# Altium integrated library TI Audio CODEC.IntLib: 199 symbols (part 1 of 17)
Pins are listed as number, name and electrical type; pins without a type are passive.

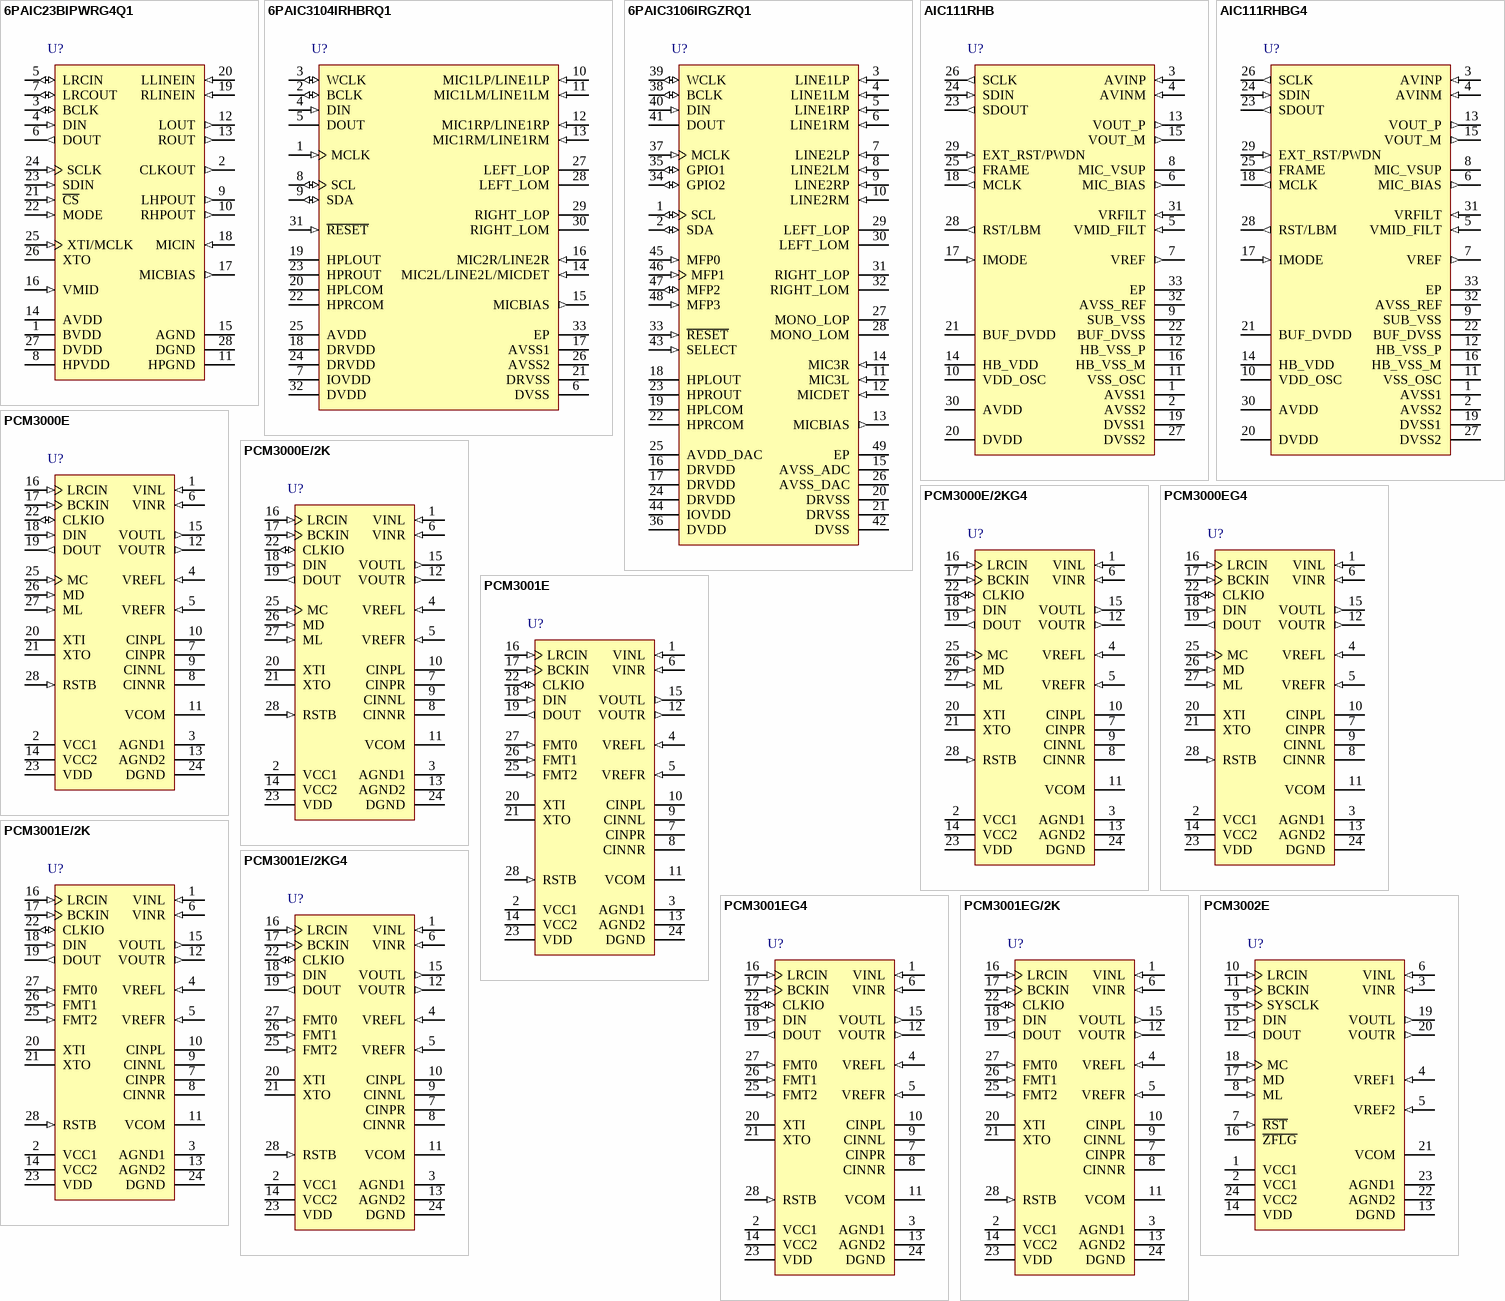
[diagram p0: symbols 6PAIC23BIPWRG4Q1 to PCM3002E]

## 6PAIC23BIPWRG4Q1
designator U?
Automotive Catalog Stereo Audio CODEC, 8 to 96 kHz, with Integrated Headphone Amp, 1 ADC and 1 DAC, 100 dB DAC SNR, -40 to 85 degC, 28-pin TSSOP (PW), Green (RoHS & no Sb/Br); Manufacturer: Texas Instruments; PartNumber: 6PAIC23BIPWRG4Q1; # ADCs (typ): 1; Battery Powered: TRUE; Control Interface: SPI, I2C; DAC SNR: 100; Digital Audio Interfaces: L, R, I2S, DSP; Sampling Rate (Max) (kHz): 96; DatasheetVersion: SGLS240C; PackageVersion: revG, Feb-2011; PackageReference: PW28; PackageDescription: 28-Pin Plastic Thin Small Outline Package 9.7 x 4.4 mm Body ,0.65 mm Pitch; Supplier 1: Digi-Key; Supplier Part Number 1: 296-24241-2-ND; Supplier 2: Digi-Key; Supplier Part Number 2: 296-24241-1-ND; Supplier 3: Digi-Key; Supplier Part Number 3: 296-24241-6-ND; Supplier 4: Mouser; Supplier Part Number 4: 595-6PAIC23BIPWRG4Q1; # DACs: 1; Headphone Driver: True; Mounting Technology: Surface Mount; Code_JEDEC: MO-153; ComponentLink1Description: Datasheet; ComponentLink1URL: http://www.ti.com/general/docs/lit/getliterature.tsp?genericPartNumber=TLV320AIC23B-Q1&fileType=pdf
footprint PW28_N (TSOP, 28-Leads, Body 9.7x4.4mm, Pitch 0.65mm, IPC Medium Density)
footprint PW28_L (TSOP, 28-Leads, Body 9.7x4.4mm, Pitch 0.65mm, IPC High Density)
footprint PW28_M (TSOP, 28-Leads, Body 9.7x4.4mm, Pitch 0.65mm, IPC Low Density)
pins: 1 BVDD (power) "Buffer supply input. Voltage range is from 2.7 V to 3.6 V.", 2 CLKOUT (out) "Clock output. This is a buffered version of the XTI input and is available in 1X or 1/2X frequencies of XTI. Bit 07 in the sample rate control register controls frequency selection.", 3 BCLK (io) "I2S serial-bit clock. In audio master mode, the AIC23B generates this signal and sends it to the DSP. In audio slave mode, the signal is generated by the DSP.", 4 DIN (in) "I2S format serial data input to the sigma-delta stereo DAC", 5 LRCIN (io) "I2S DAC-word clock signal. In audio master mode, the AIC23B generates this framing signal and sends it to the DSP. In audio slave mode, the signal is generated by the DSP.", 6 DOUT (out) "I2S format serial data output from the sigma-delta stereo ADC", 7 LRCOUT (io) "I2S ADC-word clock signal. In audio master mode, the AIC23B generates this framing signal and sends it to the DSP. In audio slave mode, the signal is generated by the DSP.", 8 HPVDD (power) "Analog headphone amplifier supply input. Voltage level is 3.3 V nominal.", 9 LHPOUT (out) "Left stereo mixer-channel amplified headphone output. Nominal 0-dB output level is 1 VRMS. Gain of -73 dB to 6 dB is provided in 1-dB steps.", 10 RHPOUT (out) "Right stereo mixer-channel amplified headphone output. Nominal 0-dB output level is 1 VRMS. Gain of -73 dB to 6 dB is provided in 1-dB steps.", 11 HPGND (power) "Analog headphone amplifier supply return", 12 LOUT (out) "Left stereo mixer-channel amplified headphone output. Nominal 0-dB output level is 1 VRMS. Gain of -73 dB to 6 dB is provided in 1-dB steps.", 13 ROUT (out) "Right stereo mixer-channel amplified headphone output. Nominal 0-dB output level is 1 VRMS. Gain of -73 dB to 6 dB is provided in 1-dB steps.", 14 AVDD (power) "Analog supply input. Voltage level is 3.3 V nominal.", 15 AGND (power) "Analog supply return", 16 VMID (in) "Midrail voltage decoupling input. 10-uF and 0.1-uF capacitors should be connected in parallel to this terminal for noise filtering. Voltage level is 1/2 AVDD nominal.", 17 MICBIAS (out) "Buffered low-noise-voltage output suitable for electret-microphone-capsule biasing. Voltage level is 3/4 AVDD nominal.", 18 MICIN (in) "Buffered amplifier input suitable for use with electret-microphone capsules. Without external resistors a default gain of 5 is provided. See Section 2.3.1.2 for details.", 19 RLINEIN (in) "Right stereo-line input channel. Nominal 0-dB input level is 1 VRMS. Gain of -34.5 dB to 12 dB is provided in 1.5-dB steps.", 20 LLINEIN (in) "Left stereo-line input channel. Nominal 0-dB input level is 1 VRMS. Gain of -34.5 dB to 12 dB is provided in 1.5-dB steps.", 21 ~{CS} (in) "Control port input latch/address select. For SPI control mode this input acts as the data latch control.For 2-wire control mode this input defines the seventh bit in the device address field. See Section 3.1 for details", 22 MODE (in) "Serial-interface-mode input. See Section 3.1 for details.", 23 SDIN (in) "Control-port serial-data input. For SPI and 2-wire control modes this is the serial-data input and also is used to select the control protocol after reset. See Section 3.1 for details.", 24 SCLK (in) "Control-port serial-data clock. For SPI and 2-wire control modes this is the serial-clock input.  See Section 3.1 for details.", 25 XTI/MCLK (in) "Crystal or external-clock input. Used for derivation of all internal clocks on the AIC23B.", 26 XTO "Crystal output. Connect to external crystal for applications where the AIC23B is the audio timing master.Not used in applications where external clock source is used.", 27 DVDD (power) "Digital supply input. Voltage range is 1.4 V to 3.6 V.", 28 DGND (power) "Digital supply return"

## 6PAIC3104IRHBRQ1
designator U?
Low-Power Stereo CODEC with 6 Inputs, 6 Outputs, HP Amp and Enhanced Digital Effect, 2 ADCs and 2 DACs, 102 dB DAC SNR, -40 to 85 degC, 32-pin QFN (RHB), Green (RoHS & no Sb/Br); Manufacturer: Texas Instruments; PartNumber: 6PAIC3104IRHBRQ1; # ADCs (typ): 2; Additional Features: LP Bypass, Notch Filtering, 3D, EQ, Matrix Mixing, PLL; Control Interface: I2C; DAC SNR: 102; Digital Audio Interfaces: L, R, I2S, DSP, TDM; Sampling Rate (Max) (kHz): 96; DatasheetVersion: SLAS715; PackageVersion: revD, Jun-2011; PackageReference: RHB32-3450X3450TP; PackageDescription: 32-Pin Plastic Quad Flat No-Lead, 5 x 5 mm Body, 0.5 mm Pitch, 3.45 x 3.45 mm Exposed Pad; Supplier 1: Digi-Key; Supplier Part Number 1: 6PAIC3104IRHBRQ1TR-ND; Supplier 2: Digi-Key; Supplier Part Number 2: 6PAIC3104IRHBRQ1CT-ND; Supplier 3: Newark; Supplier Part Number 3: 01T1052; Supplier 4: Mouser; Supplier Part Number 4: 595-6PAIC3104IRHBRQ1; # DACs: 2; Mounting Technology: Surface Mount; Code_JEDEC: MO-220; ComponentLink1Description: Datasheet; ComponentLink1URL: http://www.ti.com/general/docs/lit/getliterature.tsp?genericPartNumber=TLV320AIC3104-Q1&fileType=pdf
footprint RHB32-3450X3450TP (QFN, 32-Leads, Body 5x5mm, Pitch 0.5mm, Thermal Pad 3.45x3.45mm, TI Recommended)
pins: 1 MCLK (in) "Master clock input", 2 BCLK (io) "Audio serial data bus bit clock input/output", 3 WCLK (io) "Audio serial data bus word clock input/output", 4 DIN (in) "Audio serial data bus data  input", 5 DOUT (hiz) "Audio serial data bus data  output", 6 DVSS (power) "Digital core / I/O ground supply, 0 V", 7 IOVDD (power) "Digital I/O voltage supply, 1.1 V-3.6 V", 8 SCL (io) "I2C serial clock input", 9 SDA (io) "I2C serial data input/output", 10 MIC1LP/LINE1LP (in) "Left input 1 (SE) or left input + (diff)", 11 MIC1LM/LINE1LM (in) "Left input - (diff only)", 12 MIC1RP/LINE1RP (in) "Right input 1 (SE) or right input + (diff)", 13 MIC1RM/LINE1RM (in) "Right input - (diff only)", 14 MIC2L/LINE2L/MICDET (in) "Left input 2 (SE); can support mincrophone detection", 15 MICBIAS (out) "Microphone bias voltage output", 16 MIC2R/LINE2R (in) "Right input 2 (SE)", 17 AVSS1 (power) "Analog ADC ground supply,0 V", 18 DRVDD (power) "Analog ADC and output driver voltage supply,2.7 V-3.6 V", 19 HPLOUT (hiz) "High-power output driver (left +)", 20 HPLCOM (hiz) "High-power output driver (left - or multifunctional)", 21 DRVSS (power) "Analog output driver ground supply, 0 V", 22 HPRCOM (hiz) "High-power output driver (right - or multifunctional)", 23 HPROUT (hiz) "High-power output driver (right +)", 24 DRVDD (power) "Analog output driver voltage supply, 2.7 V-3.6 V", 25 AVDD (power) "Analog DAC voltage supply, 2.7 V-3.6 V", 26 AVSS2 (power) "Analog ADC ground supply,0 V", 27 LEFT_LOP (hiz) "Left line output (+)", 28 LEFT_LOM (hiz) "Left line output (-)", 29 RIGHT_LOP (hiz) "Right lin output (+)", 30 RIGHT_LOM (hiz) "Right lin output (-)", 31 ~{RESET} (in) "Reset", 32 DVDD (power) "Digital core voltage supply, 1.525 V-1.95 V", 33 EP (power) "Exposed Thermal Pad"

## 6PAIC3106IRGZRQ1
designator U?
Low-Power Stereo CODEC with 10 Inputs, 7 Outputs, HP Amplifier and Enhanced Digital Effects, 2 ADCs and 2 DACs, 102 dB DAC SNR, -40 to 85 degC, 48-pin VQFN (RGZ), Green (RoHS & no Sb/Br); Manufacturer: Texas Instruments; PartNumber: 6PAIC3106IRGZRQ1; # ADCs (typ): 2; Additional Features: 3D, EQ, Matrix Mixing, PLL, Alt Audio Int., HS detect; Battery Powered: TRUE; Control Interface: SPI, I2C; DAC SNR: 102; Digital Audio Interfaces: L, R, I2S, DSP, TDM; Sampling Rate (Max) (kHz): 96; DatasheetVersion: SLAS663A; PackageVersion: revF, Jun-2011; PackageReference: RGZ48-4100X4100TP; PackageDescription: 48-Pin Plastic Quad Flatpack No-Lead, 7 x 7 mm Body, 0.5 mm Pitch; Supplier 1: Digi-Key; Supplier Part Number 1: 296-25253-2-ND; Supplier 2: Digi-Key; Supplier Part Number 2: 296-25253-1-ND; Supplier 3: Digi-Key; Supplier Part Number 3: 296-25253-6-ND; Supplier 4: Newark; Supplier Part Number 4: 25R0231; Supplier 5: Mouser; Supplier Part Number 5: 595-6PAIC3106IRGZRQ1; # DACs: 2; Mounting Technology: Surface Mount; Code_JEDEC: MO-220; ComponentLink1Description: Datasheet; ComponentLink1URL: http://www.ti.com/general/docs/lit/getliterature.tsp?genericPartNumber=TLV320AIC3106-Q1&fileType=pdf
footprint RGZ48-4100X4100TP (QFN, 48-Leads, Body 7x7mm, Pitch 0.5mm, Thermal Pad 5.15x5.15mm, TI Recommended)
pins: 1 SCL (io) "I2C serial clock/GPIO", 2 SDA (io) "I2C serial data input/output/GPIO", 3 LINE1LP (in) "MIC1 or Line1 analog input (left + or multifunction)", 4 LINE1LM (in) "MIC1 or Line1 analog input (left - or multifunction)", 5 LINE1RP (in) "MIC1 or Line1 analog input (right + or multifunction)", 6 LINE1RM (in) "MIC1 or Line1 analog input (right - or multifunction)", 7 LINE2LP (in) "MIC2 or Line2 analog input (left + or multifunction)", 8 LINE2LM (in) "MIC2 or Line2 analog input (left - or multifunction)", 9 LINE2RP (in) "MIC2 or Line2 analog input (right + or multifunction)", 10 LINE2RM (in) "MIC2 or Line2 analog input (right - or multifunction)", 11 MIC3L (in) "MIC3 input (left or multifunction)", 12 MICDET (in) "Microphone detect", 13 MICBIAS (out) "Microphone bias voltage output", 14 MIC3R (in) "MIC3 input (right or multifunction)", 15 AVSS_ADC (power) "Analog ADC ground supply, 0 V", 16 DRVDD (power) "ADC analog and output driver voltage supply, 2.7 V-3.6 V", 17 DRVDD (power) "ADC analog and output driver voltage supply, 2.7 V-3.6 V", 18 HPLOUT (hiz) "High-power output driver (left +)", 19 HPLCOM (hiz) "High-power output driver (left - or multifunctional)", 20 DRVSS (power) "Analog output driver ground supply, 0 V", 21 DRVSS (power) "Analog output driver ground supply, 0 V", 22 HPRCOM (hiz) "High-power output driver (right - or multifunctional)", 23 HPROUT (hiz) "High-power output driver (right +)", 24 DRVDD (power) "ADC analog and output driver voltage supply, 2.7 V-3.6 V", 25 AVDD_DAC (power) "Analog DAC voltage supply, 2.7 V-3.6 V", 26 AVSS_DAC (power) "Analog DAC ground supply, 0 V", 27 MONO_LOP (hiz) "Mono line output (+)", 28 MONO_LOM (hiz) "Mono line output (-)", 29 LEFT_LOP (hiz) "Left line output (+)", 30 LEFT_LOM (hiz) "Left line output (-)", 31 RIGHT_LOP (hiz) "Right line output (+)", 32 RIGHT_LOM (hiz) "Right line output (-)", 33 ~{RESET} (in) "Reset", 34 GPIO2 (io) "General-purpose input/output #2 (input/output)/digital microphone data input/PLL clock input/audio serial data bus bit clock input/output", 35 GPIO1 (io) "General-purpose input/output #1 (input/output)/PLL/clock mux output/short circuit interrupt/AGC noise flag/digital microphone clock audio serial data bus word clock input/output", 36 DVDD (power) "Digital core voltage supply, 1.65 V-1.95 V", 37 MCLK (in) "Master clock input", 38 BCLK (io) "Audio serial data bus bit clock (input/output)", 39 WCLK (io) "Audio serial data bus word clock (input/output)", 40 DIN (in) "Audio serial data bus data input (input)", 41 DOUT (hiz) "Audio serial data bus data output (output)", 42 DVSS (power) "Digital core / I/O ground supply, 0V", 43 SELECT (in) "Control mode select pin (1 = SPI, 0 = I2C)", 44 IOVDD (power) "I/O voltage supply, 1.1 V-3.6 V", 45 MFP0 (in) "Multifunction pin #0 - SPI chip select / GPI / I2C address pin #0", 46 MFP1 (in) "Multifunction pin #1 - SPI serial clock / GPI / I2C address pin #1S", 47 MFP2 (io) "Multifunction pin #2 - SPI MISO slave serial data output / GPIO", 48 MFP3 (in) "Multifunction pin #3 - SPI MOSI slave serial data input/GPI/audio serial data bus data input", 49 EP (power) "Exposed Thermal Pad"

## AIC111RHB
designator U?
1.3 V Micro Power Single Channel CODEC with 1 ADC and 1 DAC, 0 to 70 degC, 32-pin QFN (RHB), Green (RoHS & no Sb/Br); Manufacturer: Texas Instruments; PartNumber: AIC111RHB; # ADCs (typ): 1; Battery Powered: TRUE; Control Interface: SPI; Digital Audio Interfaces: DSP; Sampling Rate (Max) (kHz): 40; DatasheetVersion: SLAS382A; PackageVersion: revD, Jun-2011; PackageReference: RHB32-3450X3450TP; PackageDescription: 32-Pin Plastic Quad Flat No-Lead, 5 x 5 mm Body, 0.5 mm Pitch, 3.45 x 3.45 mm Exposed Pad; Supplier 1: Digi-Key; Supplier Part Number 1: 296-15335-ND; Supplier 2: Newark; Supplier Part Number 2: 73H4143; Supplier 3: Mouser; Supplier Part Number 3: 595-AIC111RHB; # DACs: 1; Mounting Technology: Surface Mount; Code_JEDEC: MO-220; ComponentLink1Description: Datasheet; ComponentLink1URL: IC Design Specification 1.3-V MicroPowerDSP/uC Voice Band Audio CODEC
footprint RHB32-3450X3450TP (QFN, 32-Leads, Body 5x5mm, Pitch 0.5mm, Thermal Pad 3.45x3.45mm, TI Recommended)
pins: 1 AVSS1 (power) "Ground return for ADC analog circuits", 2 AVSS2 (power) "Ground return for PGAC and MIC power analog circuit", 3 AVINP (in) "Noninverting differential analog input coupled through an external 1-uF capacitor to external microphone output", 4 AVINM (in) "Inverting differential analog signal input coupled through an external 1-uF capacitor to ground", 5 VMID_FILT (in) "Midsupply ac ground reference filter pin bypassed by a 1-uF capacitor connected to ground", 6 MIC_BIAS (out) "Source connection of external microphone source follower preamp. (Provides 29.1 k ohm to AVSS2)", 7 VREF (out) "Bandgap reference output bypassed by external 1-uF VREF filter capacitor", 8 MIC_VSUP (power) "Supply voltage for external microphone source follower preamp bypassed with an external 0.1-uF capacitor", 9 SUB_VSS (power) "Isolated substrate VSS for analog circuits", 10 VDD_OSC (power) "Power pin for internal oscillator", 11 VSS_OSC (power) "Ground return for internal oscillator", 12 HB_VSS_P (power) "Ground return for noninverting stack of H-bridge amplifier", 13 VOUT_P (out) "Noninverting H-bridge output voltage", 14 HB_VDD (power) "Power pin for H-bridge amplifier", 15 VOUT_M (out) "Inverting H-bridge output voltage", 16 HB_VSS_M (power) "Ground return for inverting stack of H-bridge amplifier", 17 IMODE (in) "Digital interface format selection pin", 18 MCLK (out) "5-MHz output clock for external DSP/uC", 19 DVSS1 (power) "Ground return for digital circuits", 20 DVDD (power) "Power pin for digital circuits", 21 BUF_DVDD (power) "Power pin for interface digital I/O circuits", 22 BUF_DVSS (power) "Ground return for interface digital I/O circuits", 23 SDOUT (out) "Digital interface serial data output pin", 24 SDIN (in) "Digital interface serial data input pin", 25 FRAME (out) "Digital interface serial data framer", 26 SCLK (out) "Digital interface serial shift clock", 27 DVSS2 (power) "Ground return for digital circuits", 28 RST/LBM (out) "Provides external reset and low battery monitor", 29 EXT_RST/PWDN (in) "Powers down all analog blocks and holds digital outputs low until internal system is up", 30 AVDD (power) "VDD power pin for analog circuits", 31 VRFILT (in) "Positive ADC reference pin bypassed with 1-uF capacitor to AVSS_REF", 32 AVSS_REF (power) "Ground for ADC voltage reference", 33 EP "Exposed Thremal Pad"

## AIC111RHBG4
designator U?
1.3 V Micro Power Single Channel CODEC with 1 ADC and 1 DAC, 0 to 70 degC, 32-pin QFN (RHB), Green (RoHS & no Sb/Br); Manufacturer: Texas Instruments; PartNumber: AIC111RHBG4; # ADCs (typ): 1; Battery Powered: TRUE; Control Interface: SPI; Digital Audio Interfaces: DSP; Sampling Rate (Max) (kHz): 40; DatasheetVersion: SLAS382A; PackageVersion: revD, Jun-2011; PackageReference: RHB32-3450X3450TP; PackageDescription: 32-Pin Plastic Quad Flat No-Lead, 5 x 5 mm Body, 0.5 mm Pitch, 3.45 x 3.45 mm Exposed Pad; Supplier 1: Digi-Key; Supplier Part Number 1: AIC111RHBG4-ND; Supplier 2: Newark; Supplier Part Number 2: 80K1200; Supplier 3: Mouser; Supplier Part Number 3: 595-AIC111RHBG4; # DACs: 1; Mounting Technology: Surface Mount; Code_JEDEC: MO-220; ComponentLink1Description: Datasheet; ComponentLink1URL: IC Design Specification 1.3-V MicroPowerDSP/uC Voice Band Audio CODEC
footprint RHB32-3450X3450TP (QFN, 32-Leads, Body 5x5mm, Pitch 0.5mm, Thermal Pad 3.45x3.45mm, TI Recommended)
pins: 1 AVSS1 (power) "Ground return for ADC analog circuits", 2 AVSS2 (power) "Ground return for PGAC and MIC power analog circuit", 3 AVINP (in) "Noninverting differential analog input coupled through an external 1-uF capacitor to external microphone output", 4 AVINM (in) "Inverting differential analog signal input coupled through an external 1-uF capacitor to ground", 5 VMID_FILT (in) "Midsupply ac ground reference filter pin bypassed by a 1-uF capacitor connected to ground", 6 MIC_BIAS (out) "Source connection of external microphone source follower preamp. (Provides 29.1 k ohm to AVSS2)", 7 VREF (out) "Bandgap reference output bypassed by external 1-uF VREF filter capacitor", 8 MIC_VSUP (power) "Supply voltage for external microphone source follower preamp bypassed with an external 0.1-uF capacitor", 9 SUB_VSS (power) "Isolated substrate VSS for analog circuits", 10 VDD_OSC (power) "Power pin for internal oscillator", 11 VSS_OSC (power) "Ground return for internal oscillator", 12 HB_VSS_P (power) "Ground return for noninverting stack of H-bridge amplifier", 13 VOUT_P (out) "Noninverting H-bridge output voltage", 14 HB_VDD (power) "Power pin for H-bridge amplifier", 15 VOUT_M (out) "Inverting H-bridge output voltage", 16 HB_VSS_M (power) "Ground return for inverting stack of H-bridge amplifier", 17 IMODE (in) "Digital interface format selection pin", 18 MCLK (out) "5-MHz output clock for external DSP/uC", 19 DVSS1 (power) "Ground return for digital circuits", 20 DVDD (power) "Power pin for digital circuits", 21 BUF_DVDD (power) "Power pin for interface digital I/O circuits", 22 BUF_DVSS (power) "Ground return for interface digital I/O circuits", 23 SDOUT (out) "Digital interface serial data output pin", 24 SDIN (in) "Digital interface serial data input pin", 25 FRAME (out) "Digital interface serial data framer", 26 SCLK (out) "Digital interface serial shift clock", 27 DVSS2 (power) "Ground return for digital circuits", 28 RST/LBM (out) "Provides external reset and low battery monitor", 29 EXT_RST/PWDN (in) "Powers down all analog blocks and holds digital outputs low until internal system is up", 30 AVDD (power) "VDD power pin for analog circuits", 31 VRFILT (in) "Positive ADC reference pin bypassed with 1-uF capacitor to AVSS_REF", 32 AVSS_REF (power) "Ground for ADC voltage reference", 33 EP "Exposed Thremal Pad"

## PCM3000E
designator U?
Stereo CODEC with Line-Out (S / W Control), 2 ADCs and 2 DACs, 98 dB DAC SNR, 28-pin SSOP (DB), Green (RoHS & no Sb/Br); Manufacturer: Texas Instruments; PartNumber: PCM3000E; # ADCs (typ): 2; Control Interface: SPI; DAC SNR: 98; Digital Audio Interfaces: R, L, I2S, DSP; Line Powered: TRUE; Sampling Rate (Max) (kHz): 48; DatasheetVersion: SBAS055A; PackageVersion: revE, Dec-2001; PackageReference: DB28; PackageDescription: 28-Pin Plastic Small Outline Package, 10.2 x 5.3 mm Body, 0.65 mm Pitch; Supplier 1: Digi-Key; Supplier Part Number 1: PCM3000E-ND; Supplier 2: Newark; Supplier Part Number 2: 35C1948; Supplier 3: Mouser; Supplier Part Number 3: 595-PCM3000E; # DACs: 2; Mounting Technology: Surface Mount; Code_JEDEC: MO-150; ComponentLink1Description: Datasheet; ComponentLink1URL: http://www.ti.com/general/docs/lit/getliterature.tsp?genericPartNumber=PCM3000&fileType=pdf
footprint DB28_N (SOP, 28-Leads, Body 10.2x5.3mm, Pitch 0.65mm, IPC Medium Density)
footprint DB28_L (SOP, 28-Leads, Body 10.2x5.3mm, Pitch 0.65mm, IPC High Density)
footprint DB28_M (SOP, 28-Leads, Body 10.2x5.3mm, Pitch 0.65mm, IPC Low Density)
pins: 1 VINL (in) "ADC analog input, Lch", 2 VCC1 (power) "ADC analog power supply", 3 AGND1 (power) "ADC analog ground", 4 VREFL (in) "ADC input reference, Lch", 5 VREFR (in) "ADC analog input, Rch", 6 VINR (in) "ADC analog input, Rch", 7 CINPR "ADC antialias filter capacitor (+), Rch", 8 CINNR "ADC antialias filter capacitor (-), Rch", 9 CINNL "ADC antialias filter capacitor (-), Lch", 10 CINPL "ADC antialias filter capacitor (+), Lch", 11 VCOM "DAC output common", 12 VOUTR (out) "DAC analog output, Rch", 13 AGND2 (power) "DAC analog ground", 14 VCC2 (power) "DAC analog power supply", 15 VOUTL (out) "DAC analog output, Lch", 16 LRCIN (in) "Sample rate clock input (fS)", 17 BCKIN (in) "Bit clock input", 18 DIN (in) "Data input", 19 DOUT (out) "Data output", 20 XTI "Oscillator input", 21 XTO "Oscillator output", 22 CLKIO (io) "Buffered oscillator output or external clock input", 23 VDD (power) "Digital power supply", 24 DGND (power) "Digital ground", 25 MC (in) "Serial mode control, bit clock", 26 MD (in) "Serial mode control, data", 27 ML (in) "Serial mode control, strobe pulse", 28 RSTB (in) "Reset, active-low"

## PCM3000E/2K
designator U?
Stereo CODEC with Line-Out (S / W Control), 2 ADCs and 2 DACs, 98 dB DAC SNR, 28-pin SSOP (DB), Green (RoHS & no Sb/Br); Manufacturer: Texas Instruments; PartNumber: PCM3000E/2K; # ADCs (typ): 2; Control Interface: SPI; DAC SNR: 98; Digital Audio Interfaces: R, L, I2S, DSP; Line Powered: TRUE; Sampling Rate (Max) (kHz): 48; DatasheetVersion: SBAS055A; PackageVersion: revE, Dec-2001; PackageReference: DB28; PackageDescription: 28-Pin Plastic Small Outline Package, 10.2 x 5.3 mm Body, 0.65 mm Pitch; Supplier 1: Digi-Key; Supplier Part Number 1: PCM3000E/2K-ND; Supplier 2: Newark; Supplier Part Number 2: 75C5388; Supplier 3: Mouser; Supplier Part Number 3: 595-PCM3000E/2K; # DACs: 2; Mounting Technology: Surface Mount; Code_JEDEC: MO-150; ComponentLink1Description: Datasheet; ComponentLink1URL: http://www.ti.com/general/docs/lit/getliterature.tsp?genericPartNumber=PCM3000&fileType=pdf
footprint DB28_N (SOP, 28-Leads, Body 10.2x5.3mm, Pitch 0.65mm, IPC Medium Density)
footprint DB28_L (SOP, 28-Leads, Body 10.2x5.3mm, Pitch 0.65mm, IPC High Density)
footprint DB28_M (SOP, 28-Leads, Body 10.2x5.3mm, Pitch 0.65mm, IPC Low Density)
pins: 1 VINL (in) "ADC analog input, Lch", 2 VCC1 (power) "ADC analog power supply", 3 AGND1 (power) "ADC analog ground", 4 VREFL (in) "ADC input reference, Lch", 5 VREFR (in) "ADC analog input, Rch", 6 VINR (in) "ADC analog input, Rch", 7 CINPR "ADC antialias filter capacitor (+), Rch", 8 CINNR "ADC antialias filter capacitor (-), Rch", 9 CINNL "ADC antialias filter capacitor (-), Lch", 10 CINPL "ADC antialias filter capacitor (+), Lch", 11 VCOM "DAC output common", 12 VOUTR (out) "DAC analog output, Rch", 13 AGND2 (power) "DAC analog ground", 14 VCC2 (power) "DAC analog power supply", 15 VOUTL (out) "DAC analog output, Lch", 16 LRCIN (in) "Sample rate clock input (fS)", 17 BCKIN (in) "Bit clock input", 18 DIN (in) "Data input", 19 DOUT (out) "Data output", 20 XTI "Oscillator input", 21 XTO "Oscillator output", 22 CLKIO (io) "Buffered oscillator output or external clock input", 23 VDD (power) "Digital power supply", 24 DGND (power) "Digital ground", 25 MC (in) "Serial mode control, bit clock", 26 MD (in) "Serial mode control, data", 27 ML (in) "Serial mode control, strobe pulse", 28 RSTB (in) "Reset, active-low"

## PCM3000E/2KG4
designator U?
Stereo CODEC with Line-Out (S / W Control), 2 ADCs and 2 DACs, 98 dB DAC SNR, 28-pin SSOP (DB), Green (RoHS & no Sb/Br); Manufacturer: Texas Instruments; PartNumber: PCM3000E/2KG4; # ADCs (typ): 2; Control Interface: SPI; DAC SNR: 98; Digital Audio Interfaces: R, L, I2S, DSP; Line Powered: TRUE; Sampling Rate (Max) (kHz): 48; DatasheetVersion: SBAS055A; PackageVersion: revE, Dec-2001; PackageReference: DB28; PackageDescription: 28-Pin Plastic Small Outline Package, 10.2 x 5.3 mm Body, 0.65 mm Pitch; Supplier 1: Digi-Key; Supplier Part Number 1: PCM3000E/2KG4-ND; Supplier 2: Newark; Supplier Part Number 2: 67K8276; Supplier 3: Mouser; Supplier Part Number 3: 595-PCM3000E/2KG4; # DACs: 2; Mounting Technology: Surface Mount; Code_JEDEC: MO-150; ComponentLink1Description: Datasheet; ComponentLink1URL: http://www.ti.com/general/docs/lit/getliterature.tsp?genericPartNumber=PCM3000&fileType=pdf
footprint DB28_N (SOP, 28-Leads, Body 10.2x5.3mm, Pitch 0.65mm, IPC Medium Density)
footprint DB28_L (SOP, 28-Leads, Body 10.2x5.3mm, Pitch 0.65mm, IPC High Density)
footprint DB28_M (SOP, 28-Leads, Body 10.2x5.3mm, Pitch 0.65mm, IPC Low Density)
pins: 1 VINL (in) "ADC analog input, Lch", 2 VCC1 (power) "ADC analog power supply", 3 AGND1 (power) "ADC analog ground", 4 VREFL (in) "ADC input reference, Lch", 5 VREFR (in) "ADC analog input, Rch", 6 VINR (in) "ADC analog input, Rch", 7 CINPR "ADC antialias filter capacitor (+), Rch", 8 CINNR "ADC antialias filter capacitor (-), Rch", 9 CINNL "ADC antialias filter capacitor (-), Lch", 10 CINPL "ADC antialias filter capacitor (+), Lch", 11 VCOM "DAC output common", 12 VOUTR (out) "DAC analog output, Rch", 13 AGND2 (power) "DAC analog ground", 14 VCC2 (power) "DAC analog power supply", 15 VOUTL (out) "DAC analog output, Lch", 16 LRCIN (in) "Sample rate clock input (fS)", 17 BCKIN (in) "Bit clock input", 18 DIN (in) "Data input", 19 DOUT (out) "Data output", 20 XTI "Oscillator input", 21 XTO "Oscillator output", 22 CLKIO (io) "Buffered oscillator output or external clock input", 23 VDD (power) "Digital power supply", 24 DGND (power) "Digital ground", 25 MC (in) "Serial mode control, bit clock", 26 MD (in) "Serial mode control, data", 27 ML (in) "Serial mode control, strobe pulse", 28 RSTB (in) "Reset, active-low"

## PCM3000EG4
designator U?
Stereo CODEC with Line-Out (S / W Control), 2 ADCs and 2 DACs, 98 dB DAC SNR, 28-pin SSOP (DB), Green (RoHS & no Sb/Br); Manufacturer: Texas Instruments; PartNumber: PCM3000EG4; # ADCs (typ): 2; Control Interface: SPI; DAC SNR: 98; Digital Audio Interfaces: R, L, I2S, DSP; Line Powered: TRUE; Sampling Rate (Max) (kHz): 48; DatasheetVersion: SBAS055A; PackageVersion: revE, Dec-2001; PackageReference: DB28; PackageDescription: 28-Pin Plastic Small Outline Package, 10.2 x 5.3 mm Body, 0.65 mm Pitch; Supplier 1: Digi-Key; Supplier Part Number 1: PCM3000EG4-ND; Supplier 2: Newark; Supplier Part Number 2: 66K4091; Supplier 3: Mouser; Supplier Part Number 3: 595-PCM3000EG4; # DACs: 2; Mounting Technology: Surface Mount; Code_JEDEC: MO-150; ComponentLink1Description: Datasheet; ComponentLink1URL: http://www.ti.com/general/docs/lit/getliterature.tsp?genericPartNumber=PCM3000&fileType=pdf
footprint DB28_N (SOP, 28-Leads, Body 10.2x5.3mm, Pitch 0.65mm, IPC Medium Density)
footprint DB28_L (SOP, 28-Leads, Body 10.2x5.3mm, Pitch 0.65mm, IPC High Density)
footprint DB28_M (SOP, 28-Leads, Body 10.2x5.3mm, Pitch 0.65mm, IPC Low Density)
pins: 1 VINL (in) "ADC analog input, Lch", 2 VCC1 (power) "ADC analog power supply", 3 AGND1 (power) "ADC analog ground", 4 VREFL (in) "ADC input reference, Lch", 5 VREFR (in) "ADC analog input, Rch", 6 VINR (in) "ADC analog input, Rch", 7 CINPR "ADC antialias filter capacitor (+), Rch", 8 CINNR "ADC antialias filter capacitor (-), Rch", 9 CINNL "ADC antialias filter capacitor (-), Lch", 10 CINPL "ADC antialias filter capacitor (+), Lch", 11 VCOM "DAC output common", 12 VOUTR (out) "DAC analog output, Rch", 13 AGND2 (power) "DAC analog ground", 14 VCC2 (power) "DAC analog power supply", 15 VOUTL (out) "DAC analog output, Lch", 16 LRCIN (in) "Sample rate clock input (fS)", 17 BCKIN (in) "Bit clock input", 18 DIN (in) "Data input", 19 DOUT (out) "Data output", 20 XTI "Oscillator input", 21 XTO "Oscillator output", 22 CLKIO (io) "Buffered oscillator output or external clock input", 23 VDD (power) "Digital power supply", 24 DGND (power) "Digital ground", 25 MC (in) "Serial mode control, bit clock", 26 MD (in) "Serial mode control, data", 27 ML (in) "Serial mode control, strobe pulse", 28 RSTB (in) "Reset, active-low"

## PCM3001E
designator U?
Stereo CODEC with Line-Out (H / W Control), 2 ADCs and 2 DACs, 98 dB DAC SNR, 28-pin SSOP (DB), Green (RoHS & no Sb/Br); Manufacturer: Texas Instruments; PartNumber: PCM3001E; # ADCs (typ): 2; Control Interface: H/W; DAC SNR: 98; Digital Audio Interfaces: R, L, I2S, DSP; Line Powered: TRUE; Sampling Rate (Max) (kHz): 48; DatasheetVersion: SBAS055A; PackageVersion: revE, Dec-2001; PackageReference: DB28; PackageDescription: 28-Pin Plastic Small Outline Package, 10.2 x 5.3 mm Body, 0.65 mm Pitch; Supplier 1: Digi-Key; Supplier Part Number 1: PCM3001E-ND; Supplier 2: Newark; Supplier Part Number 2: 34K8600; Supplier 3: Mouser; Supplier Part Number 3: 595-PCM3001E; # DACs: 2; Mounting Technology: Surface Mount; Code_JEDEC: MO-150; ComponentLink1Description: Datasheet; ComponentLink1URL: http://www.ti.com/general/docs/lit/getliterature.tsp?genericPartNumber=PCM3001&fileType=pdf
footprint DB28_N (SOP, 28-Leads, Body 10.2x5.3mm, Pitch 0.65mm, IPC Medium Density)
footprint DB28_L (SOP, 28-Leads, Body 10.2x5.3mm, Pitch 0.65mm, IPC High Density)
footprint DB28_M (SOP, 28-Leads, Body 10.2x5.3mm, Pitch 0.65mm, IPC Low Density)
pins: 1 VINL (in) "ADC analog input, Lch", 2 VCC1 (power) "ADC analog power supply", 3 AGND1 (power) "ADC analog ground", 4 VREFL (in) "ADC input reference, Lch", 5 VREFR (in) "ADC input reference, Rch", 6 VINR (in) "ADC analog input, Rch", 7 CINPR "ADC antialias filter capacitor (+), Rch", 8 CINNR "ADC antialias filter capacitor (-), Rch", 9 CINNL "ADC antialias filter capacitor (-), Lch", 10 CINPL "ADC antialias filter capacitor (+), Lch", 11 VCOM "DAC output common", 12 VOUTR (out) "DAC analog output, Rch", 13 AGND2 (power) "DAC analog ground", 14 VCC2 (power) "DAC analog power supply", 15 VOUTL (out) "DAC analog output, Lch", 16 LRCIN (in) "Sample rate clock input (fS)", 17 BCKIN (in) "Bit clock input", 18 DIN (in) "Data input", 19 DOUT (out) "Data output", 20 XTI "Oscillator input", 21 XTO "Oscillator output", 22 CLKIO (io) "Buffered oscillator output or external clock input", 23 VDD (power) "Digital power supply", 24 DGND (power) "Digital ground", 25 FMT2 (in) "Audio data format control 2", 26 FMT1 (in) "Audio data format control 1", 27 FMT0 (in) "Audio data format control 0", 28 RSTB (in) "Reset, active-low"

## PCM3001E/2K
designator U?
Stereo CODEC with Line-Out (H / W Control), 2 ADCs and 2 DACs, 98 dB DAC SNR, 28-pin SSOP (DB), Green (RoHS & no Sb/Br); Manufacturer: Texas Instruments; PartNumber: PCM3001E/2K; # ADCs (typ): 2; Control Interface: H/W; DAC SNR: 98; Digital Audio Interfaces: R, L, I2S, DSP; Line Powered: TRUE; Sampling Rate (Max) (kHz): 48; DatasheetVersion: SBAS055A; PackageVersion: revE, Dec-2001; PackageReference: DB28; PackageDescription: 28-Pin Plastic Small Outline Package, 10.2 x 5.3 mm Body, 0.65 mm Pitch; Supplier 1: Digi-Key; Supplier Part Number 1: PCM3001E/2K-ND; Supplier 2: Newark; Supplier Part Number 2: 75C5389; Supplier 3: Mouser; Supplier Part Number 3: 595-PCM3001E/2K; # DACs: 2; Mounting Technology: Surface Mount; Code_JEDEC: MO-150; ComponentLink1Description: Datasheet; ComponentLink1URL: http://www.ti.com/general/docs/lit/getliterature.tsp?genericPartNumber=PCM3001&fileType=pdf
footprint DB28_N (SOP, 28-Leads, Body 10.2x5.3mm, Pitch 0.65mm, IPC Medium Density)
footprint DB28_L (SOP, 28-Leads, Body 10.2x5.3mm, Pitch 0.65mm, IPC High Density)
footprint DB28_M (SOP, 28-Leads, Body 10.2x5.3mm, Pitch 0.65mm, IPC Low Density)
pins: 1 VINL (in) "ADC analog input, Lch", 2 VCC1 (power) "ADC analog power supply", 3 AGND1 (power) "ADC analog ground", 4 VREFL (in) "ADC input reference, Lch", 5 VREFR (in) "ADC input reference, Rch", 6 VINR (in) "ADC analog input, Rch", 7 CINPR "ADC antialias filter capacitor (+), Rch", 8 CINNR "ADC antialias filter capacitor (-), Rch", 9 CINNL "ADC antialias filter capacitor (-), Lch", 10 CINPL "ADC antialias filter capacitor (+), Lch", 11 VCOM "DAC output common", 12 VOUTR (out) "DAC analog output, Rch", 13 AGND2 (power) "DAC analog ground", 14 VCC2 (power) "DAC analog power supply", 15 VOUTL (out) "DAC analog output, Lch", 16 LRCIN (in) "Sample rate clock input (fS)", 17 BCKIN (in) "Bit clock input", 18 DIN (in) "Data input", 19 DOUT (out) "Data output", 20 XTI "Oscillator input", 21 XTO "Oscillator output", 22 CLKIO (io) "Buffered oscillator output or external clock input", 23 VDD (power) "Digital power supply", 24 DGND (power) "Digital ground", 25 FMT2 (in) "Audio data format control 2", 26 FMT1 (in) "Audio data format control 1", 27 FMT0 (in) "Audio data format control 0", 28 RSTB (in) "Reset, active-low"

## PCM3001E/2KG4
designator U?
Stereo CODEC with Line-Out (H / W Control), 2 ADCs and 2 DACs, 98 dB DAC SNR, 28-pin SSOP (DB), Green (RoHS & no Sb/Br); Manufacturer: Texas Instruments; PartNumber: PCM3001E/2KG4; # ADCs (typ): 2; Control Interface: H/W; DAC SNR: 98; Digital Audio Interfaces: R, L, I2S, DSP; Line Powered: TRUE; Sampling Rate (Max) (kHz): 48; DatasheetVersion: SBAS055A; PackageVersion: revE, Dec-2001; PackageReference: DB28; PackageDescription: 28-Pin Plastic Small Outline Package, 10.2 x 5.3 mm Body, 0.65 mm Pitch; Supplier 1: Digi-Key; Supplier Part Number 1: PCM3001E/2KG4-ND; Supplier 2: Newark; Supplier Part Number 2: 66K4092; Supplier 3: Mouser; Supplier Part Number 3: 595-PCM3001E/2KG4; # DACs: 2; Mounting Technology: Surface Mount; Code_JEDEC: MO-150; ComponentLink1Description: Datasheet; ComponentLink1URL: http://www.ti.com/general/docs/lit/getliterature.tsp?genericPartNumber=PCM3001&fileType=pdf
footprint DB28_N (SOP, 28-Leads, Body 10.2x5.3mm, Pitch 0.65mm, IPC Medium Density)
footprint DB28_L (SOP, 28-Leads, Body 10.2x5.3mm, Pitch 0.65mm, IPC High Density)
footprint DB28_M (SOP, 28-Leads, Body 10.2x5.3mm, Pitch 0.65mm, IPC Low Density)
pins: 1 VINL (in) "ADC analog input, Lch", 2 VCC1 (power) "ADC analog power supply", 3 AGND1 (power) "ADC analog ground", 4 VREFL (in) "ADC input reference, Lch", 5 VREFR (in) "ADC input reference, Rch", 6 VINR (in) "ADC analog input, Rch", 7 CINPR "ADC antialias filter capacitor (+), Rch", 8 CINNR "ADC antialias filter capacitor (-), Rch", 9 CINNL "ADC antialias filter capacitor (-), Lch", 10 CINPL "ADC antialias filter capacitor (+), Lch", 11 VCOM "DAC output common", 12 VOUTR (out) "DAC analog output, Rch", 13 AGND2 (power) "DAC analog ground", 14 VCC2 (power) "DAC analog power supply", 15 VOUTL (out) "DAC analog output, Lch", 16 LRCIN (in) "Sample rate clock input (fS)", 17 BCKIN (in) "Bit clock input", 18 DIN (in) "Data input", 19 DOUT (out) "Data output", 20 XTI "Oscillator input", 21 XTO "Oscillator output", 22 CLKIO (io) "Buffered oscillator output or external clock input", 23 VDD (power) "Digital power supply", 24 DGND (power) "Digital ground", 25 FMT2 (in) "Audio data format control 2", 26 FMT1 (in) "Audio data format control 1", 27 FMT0 (in) "Audio data format control 0", 28 RSTB (in) "Reset, active-low"

## PCM3001EG4
designator U?
Stereo CODEC with Line-Out (H / W Control), 2 ADCs and 2 DACs, 98 dB DAC SNR, 28-pin SSOP (DB), Green (RoHS & no Sb/Br); Manufacturer: Texas Instruments; PartNumber: PCM3001EG4; # ADCs (typ): 2; Control Interface: H/W; DAC SNR: 98; Digital Audio Interfaces: R, L, I2S, DSP; Line Powered: TRUE; Sampling Rate (Max) (kHz): 48; DatasheetVersion: SBAS055A; PackageVersion: revE, Dec-2001; PackageReference: DB28; PackageDescription: 28-Pin Plastic Small Outline Package, 10.2 x 5.3 mm Body, 0.65 mm Pitch; Supplier 1: Digi-Key; Supplier Part Number 1: PCM3001EG4-ND; Supplier 2: Newark; Supplier Part Number 2: 66K4093; Supplier 3: Mouser; Supplier Part Number 3: 595-PCM3001EG4; # DACs: 2; Mounting Technology: Surface Mount; Code_JEDEC: MO-150; ComponentLink1Description: Datasheet; ComponentLink1URL: http://www.ti.com/general/docs/lit/getliterature.tsp?genericPartNumber=PCM3001&fileType=pdf
footprint DB28_N (SOP, 28-Leads, Body 10.2x5.3mm, Pitch 0.65mm, IPC Medium Density)
footprint DB28_L (SOP, 28-Leads, Body 10.2x5.3mm, Pitch 0.65mm, IPC High Density)
footprint DB28_M (SOP, 28-Leads, Body 10.2x5.3mm, Pitch 0.65mm, IPC Low Density)
pins: 1 VINL (in) "ADC analog input, Lch", 2 VCC1 (power) "ADC analog power supply", 3 AGND1 (power) "ADC analog ground", 4 VREFL (in) "ADC input reference, Lch", 5 VREFR (in) "ADC input reference, Rch", 6 VINR (in) "ADC analog input, Rch", 7 CINPR "ADC antialias filter capacitor (+), Rch", 8 CINNR "ADC antialias filter capacitor (-), Rch", 9 CINNL "ADC antialias filter capacitor (-), Lch", 10 CINPL "ADC antialias filter capacitor (+), Lch", 11 VCOM "DAC output common", 12 VOUTR (out) "DAC analog output, Rch", 13 AGND2 (power) "DAC analog ground", 14 VCC2 (power) "DAC analog power supply", 15 VOUTL (out) "DAC analog output, Lch", 16 LRCIN (in) "Sample rate clock input (fS)", 17 BCKIN (in) "Bit clock input", 18 DIN (in) "Data input", 19 DOUT (out) "Data output", 20 XTI "Oscillator input", 21 XTO "Oscillator output", 22 CLKIO (io) "Buffered oscillator output or external clock input", 23 VDD (power) "Digital power supply", 24 DGND (power) "Digital ground", 25 FMT2 (in) "Audio data format control 2", 26 FMT1 (in) "Audio data format control 1", 27 FMT0 (in) "Audio data format control 0", 28 RSTB (in) "Reset, active-low"

## PCM3001EG/2K
designator U?
Stereo CODEC with Line-Out (H / W Control), 2 ADCs and 2 DACs, 98 dB DAC SNR, Pb-Free (RoHS); Manufacturer: Texas Instruments; PartNumber: PCM3001EG/2K; # ADCs (typ): 2; Control Interface: H/W; DAC SNR: 98; Digital Audio Interfaces: R, L, I2S, DSP; Line Powered: TRUE; Sampling Rate (Max) (kHz): 48; DatasheetVersion: SBAS055A; PackageVersion: revE, Dec-2001; PackageReference: DB28; PackageDescription: 28-Pin Plastic Small Outline Package, 10.2 x 5.3 mm Body, 0.65 mm Pitch; Supplier 1: Mouser; Supplier Part Number 1: N/A; # DACs: 2; Mounting Technology: Surface Mount; Code_JEDEC: MO-150; ComponentLink1Description: Datasheet; ComponentLink1URL: http://www.ti.com/general/docs/lit/getliterature.tsp?genericPartNumber=PCM3001&fileType=pdf
footprint DB28_N (SOP, 28-Leads, Body 10.2x5.3mm, Pitch 0.65mm, IPC Medium Density)
footprint DB28_L (SOP, 28-Leads, Body 10.2x5.3mm, Pitch 0.65mm, IPC High Density)
footprint DB28_M (SOP, 28-Leads, Body 10.2x5.3mm, Pitch 0.65mm, IPC Low Density)
pins: 1 VINL (in) "ADC analog input, Lch", 2 VCC1 (power) "ADC analog power supply", 3 AGND1 (power) "ADC analog ground", 4 VREFL (in) "ADC input reference, Lch", 5 VREFR (in) "ADC input reference, Rch", 6 VINR (in) "ADC analog input, Rch", 7 CINPR "ADC antialias filter capacitor (+), Rch", 8 CINNR "ADC antialias filter capacitor (-), Rch", 9 CINNL "ADC antialias filter capacitor (-), Lch", 10 CINPL "ADC antialias filter capacitor (+), Lch", 11 VCOM "DAC output common", 12 VOUTR (out) "DAC analog output, Rch", 13 AGND2 (power) "DAC analog ground", 14 VCC2 (power) "DAC analog power supply", 15 VOUTL (out) "DAC analog output, Lch", 16 LRCIN (in) "Sample rate clock input (fS)", 17 BCKIN (in) "Bit clock input", 18 DIN (in) "Data input", 19 DOUT (out) "Data output", 20 XTI "Oscillator input", 21 XTO "Oscillator output", 22 CLKIO (io) "Buffered oscillator output or external clock input", 23 VDD (power) "Digital power supply", 24 DGND (power) "Digital ground", 25 FMT2 (in) "Audio data format control 2", 26 FMT1 (in) "Audio data format control 1", 27 FMT0 (in) "Audio data format control 0", 28 RSTB (in) "Reset, active-low"

## PCM3002E
designator U?
Low-Power Stereo CODEC with Line-Out (S / W Control), 2 ADCs and 2 DACs, 94 dB DAC SNR, 24-pin SSOP (DB), Green (RoHS & no Sb/Br); Manufacturer: Texas Instruments; PartNumber: PCM3002E; # ADCs (typ): 2; Battery Powered: TRUE; Control Interface: SPI; DAC SNR: 94; Digital Audio Interfaces: R, L, I2S; Sampling Rate (Max) (kHz): 48; DatasheetVersion: SBAS079A; PackageVersion: revE, Dec-2001; PackageReference: DB24; PackageDescription: 24-Pin Plastic Small Outline Package, 8.2 x 5.3 mm Body, 0.65 mm Pitch; Supplier 1: Digi-Key; Supplier Part Number 1: PCM3002E-ND; Supplier 2: Newark; Supplier Part Number 2: 34K8601; Supplier 3: Mouser; Supplier Part Number 3: 595-PCM3002E; # DACs: 2; Mounting Technology: Surface Mount; Code_JEDEC: MO-150; ComponentLink1Description: Datasheet; ComponentLink1URL: http://www.ti.com/general/docs/lit/getliterature.tsp?genericPartNumber=PCM3002&fileType=pdf
footprint DB24_N (SOP, 24-Leads, Body 8.2x5.3mm, Pitch 0.65mm, IPC Medium Density)
footprint DB24_L (SOP, 24-Leads, Body 8.2x5.3mm, Pitch 0.65mm, IPC High Density)
footprint DB24_M (SOP, 24-Leads, Body 8.2x5.3mm, Pitch 0.65mm, IPC Low Density)
pins: 1 VCC1 (power) "ADC analog power supply", 2 VCC1 (power) "ADC analog power supply", 3 VINR (in) "ADC analog input, Rch", 4 VREF1 (in) "ADC reference 1", 5 VREF2 (in) "ADC reference 2", 6 VINL (in) "ADC analog input, Lch", 7 ~{RST} (in) "Reset, active LOW", 8 ML (in) "Strobe pulse for mode control", 9 SYSCLK (in) "System clock input", 10 LRCIN (in) "Sample rate clock input (f s )", 11 BCKIN (in) "Bit clock input", 12 DOUT (out) "Data output", 13 DGND (power) "Digital ground", 14 VDD (power) "Digital power supply", 15 DIN (in) "Data input", 16 ~{ZFLG} (hiz) "Zero flag output, active LOW", 17 MD (in) "Serial data for mode control", 18 MC (in) "Bit clock for mode control", 19 VOUTL (out) "DAC analog output, Lch", 20 VOUTR (out) "DAC analog output, Rch", 21 VCOM "ADC/DAC common", 22 AGND2 (power) "DAC analog ground", 23 AGND1 (power) "ADC analog ground", 24 VCC2 (power) "DAC analog power supply"

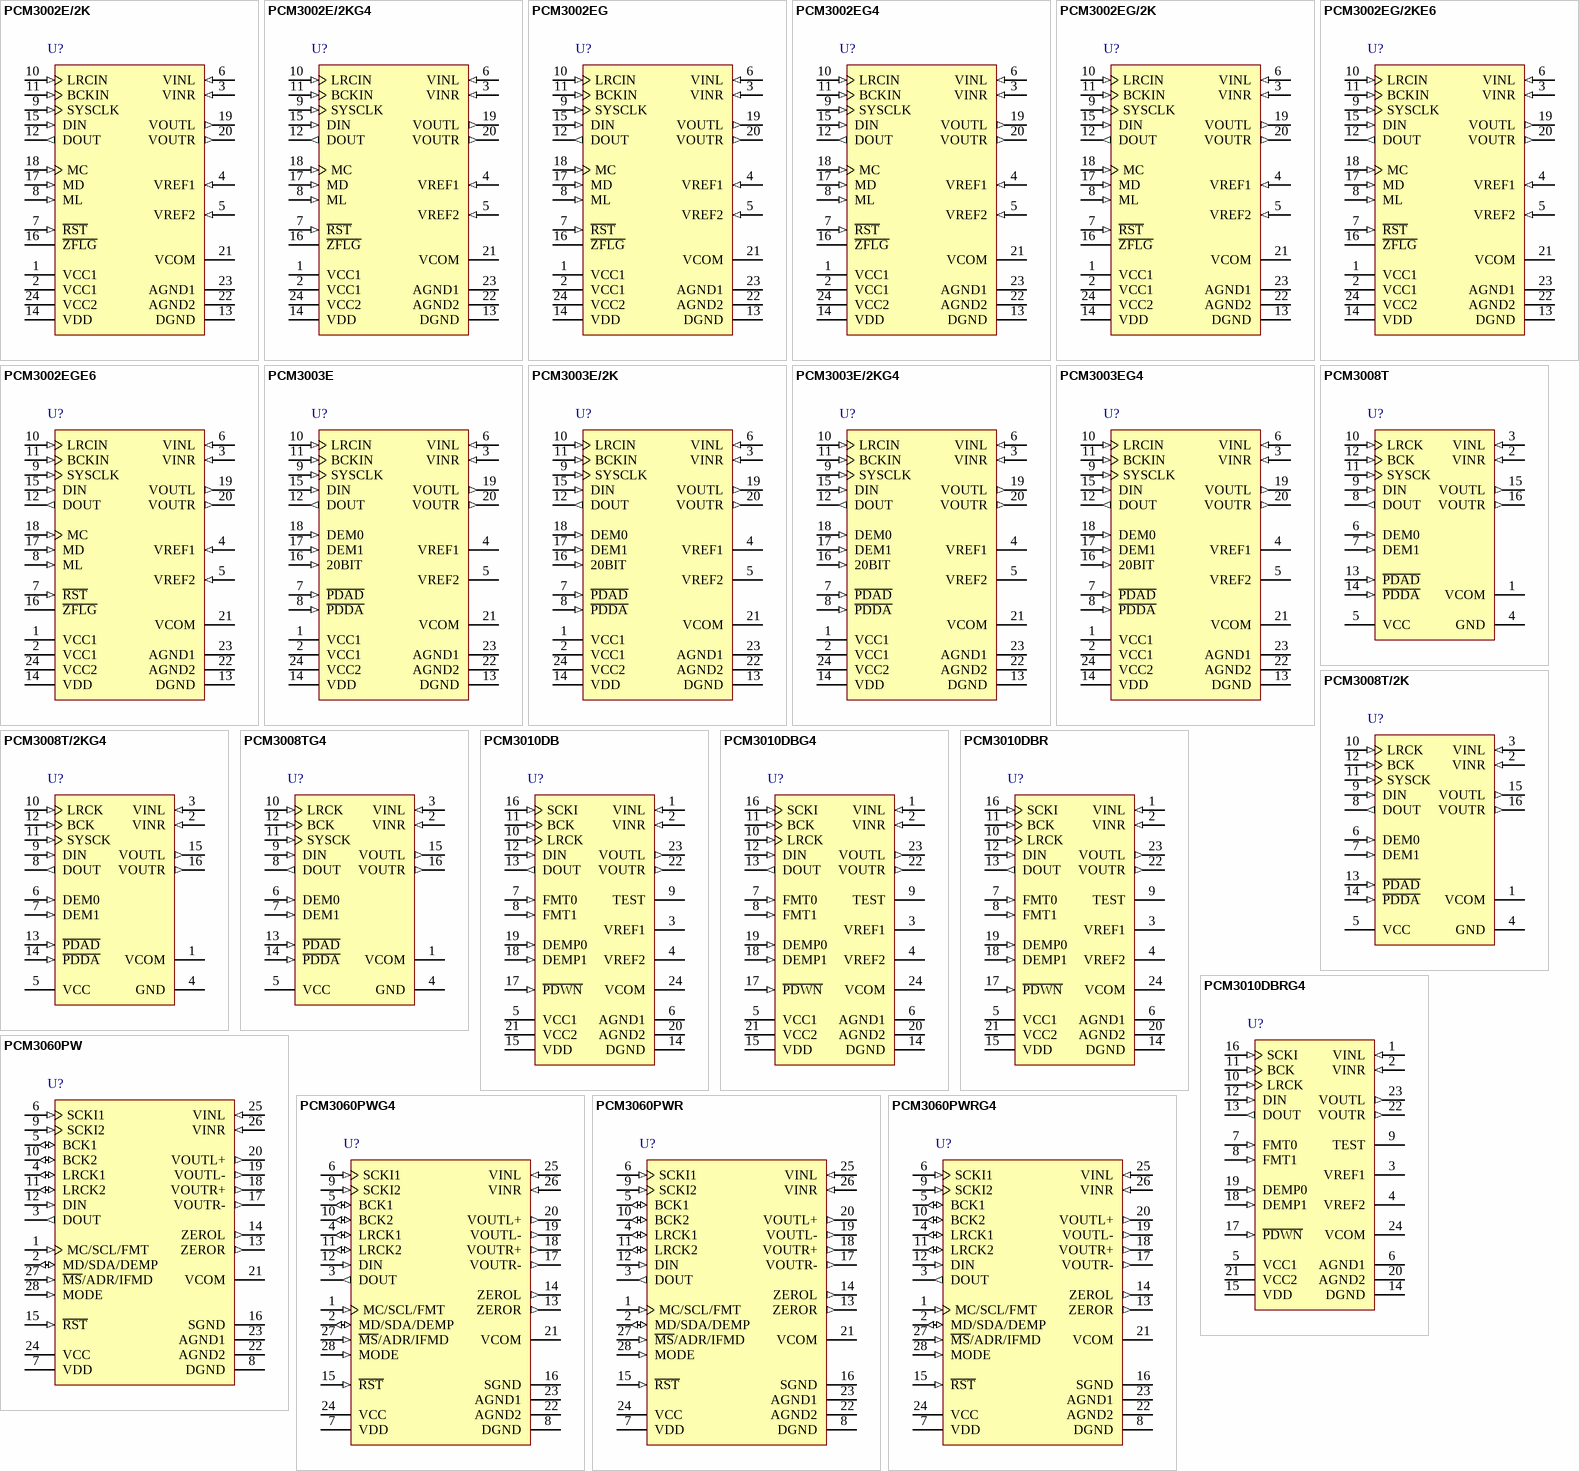
[diagram p1: symbols PCM3002E/2K to PCM3060PWRG4]

## PCM3002E/2K
designator U?
Low-Power Stereo CODEC with Line-Out (S / W Control), 2 ADCs and 2 DACs, 94 dB DAC SNR, 24-pin SSOP (DB), Green (RoHS & no Sb/Br); Manufacturer: Texas Instruments; PartNumber: PCM3002E/2K; # ADCs (typ): 2; Battery Powered: TRUE; Control Interface: SPI; DAC SNR: 94; Digital Audio Interfaces: R, L, I2S; Sampling Rate (Max) (kHz): 48; DatasheetVersion: SBAS079A; PackageVersion: revE, Dec-2001; PackageReference: DB24; PackageDescription: 24-Pin Plastic Small Outline Package, 8.2 x 5.3 mm Body, 0.65 mm Pitch; Supplier 1: Digi-Key; Supplier Part Number 1: PCM3002E/2K-ND; Supplier 2: Newark; Supplier Part Number 2: 75C5390; Supplier 3: Mouser; Supplier Part Number 3: 595-PCM3002E/2K; # DACs: 2; Mounting Technology: Surface Mount; Code_JEDEC: MO-150; ComponentLink1Description: Datasheet; ComponentLink1URL: http://www.ti.com/general/docs/lit/getliterature.tsp?genericPartNumber=PCM3002&fileType=pdf
footprint DB24_N (SOP, 24-Leads, Body 8.2x5.3mm, Pitch 0.65mm, IPC Medium Density)
footprint DB24_L (SOP, 24-Leads, Body 8.2x5.3mm, Pitch 0.65mm, IPC High Density)
footprint DB24_M (SOP, 24-Leads, Body 8.2x5.3mm, Pitch 0.65mm, IPC Low Density)
pins: 1 VCC1 (power) "ADC analog power supply", 2 VCC1 (power) "ADC analog power supply", 3 VINR (in) "ADC analog input, Rch", 4 VREF1 (in) "ADC reference 1", 5 VREF2 (in) "ADC reference 2", 6 VINL (in) "ADC analog input, Lch", 7 ~{RST} (in) "Reset, active LOW", 8 ML (in) "Strobe pulse for mode control", 9 SYSCLK (in) "System clock input", 10 LRCIN (in) "Sample rate clock input (f s )", 11 BCKIN (in) "Bit clock input", 12 DOUT (out) "Data output", 13 DGND (power) "Digital ground", 14 VDD (power) "Digital power supply", 15 DIN (in) "Data input", 16 ~{ZFLG} (hiz) "Zero flag output, active LOW", 17 MD (in) "Serial data for mode control", 18 MC (in) "Bit clock for mode control", 19 VOUTL (out) "DAC analog output, Lch", 20 VOUTR (out) "DAC analog output, Rch", 21 VCOM "ADC/DAC common", 22 AGND2 (power) "DAC analog ground", 23 AGND1 (power) "ADC analog ground", 24 VCC2 (power) "DAC analog power supply"

## PCM3002E/2KG4
designator U?
Low-Power Stereo CODEC with Line-Out (S / W Control), 2 ADCs and 2 DACs, 94 dB DAC SNR, 24-pin SSOP (DB), Green (RoHS & no Sb/Br); Manufacturer: Texas Instruments; PartNumber: PCM3002E/2KG4; # ADCs (typ): 2; Battery Powered: TRUE; Control Interface: SPI; DAC SNR: 94; Digital Audio Interfaces: R, L, I2S; Sampling Rate (Max) (kHz): 48; DatasheetVersion: SBAS079A; PackageVersion: revE, Dec-2001; PackageReference: DB24; PackageDescription: 24-Pin Plastic Small Outline Package, 8.2 x 5.3 mm Body, 0.65 mm Pitch; Supplier 1: Digi-Key; Supplier Part Number 1: PCM3002E/2KG4-ND; Supplier 2: Newark; Supplier Part Number 2: 66K4094; Supplier 3: Mouser; Supplier Part Number 3: 595-PCM3002E/2KG4; # DACs: 2; Mounting Technology: Surface Mount; Code_JEDEC: MO-150; ComponentLink1Description: Datasheet; ComponentLink1URL: http://www.ti.com/general/docs/lit/getliterature.tsp?genericPartNumber=PCM3002&fileType=pdf
footprint DB24_N (SOP, 24-Leads, Body 8.2x5.3mm, Pitch 0.65mm, IPC Medium Density)
footprint DB24_L (SOP, 24-Leads, Body 8.2x5.3mm, Pitch 0.65mm, IPC High Density)
footprint DB24_M (SOP, 24-Leads, Body 8.2x5.3mm, Pitch 0.65mm, IPC Low Density)
pins: 1 VCC1 (power) "ADC analog power supply", 2 VCC1 (power) "ADC analog power supply", 3 VINR (in) "ADC analog input, Rch", 4 VREF1 (in) "ADC reference 1", 5 VREF2 (in) "ADC reference 2", 6 VINL (in) "ADC analog input, Lch", 7 ~{RST} (in) "Reset, active LOW", 8 ML (in) "Strobe pulse for mode control", 9 SYSCLK (in) "System clock input", 10 LRCIN (in) "Sample rate clock input (f s )", 11 BCKIN (in) "Bit clock input", 12 DOUT (out) "Data output", 13 DGND (power) "Digital ground", 14 VDD (power) "Digital power supply", 15 DIN (in) "Data input", 16 ~{ZFLG} (hiz) "Zero flag output, active LOW", 17 MD (in) "Serial data for mode control", 18 MC (in) "Bit clock for mode control", 19 VOUTL (out) "DAC analog output, Lch", 20 VOUTR (out) "DAC analog output, Rch", 21 VCOM "ADC/DAC common", 22 AGND2 (power) "DAC analog ground", 23 AGND1 (power) "ADC analog ground", 24 VCC2 (power) "DAC analog power supply"

## PCM3002EG
designator U?
Low-Power Stereo CODEC with Line-Out (S / W Control), 2 ADCs and 2 DACs, 94 dB DAC SNR, 24-pin SSOP (DB), Pb-Free (RoHS); Manufacturer: Texas Instruments; PartNumber: PCM3002EG; # ADCs (typ): 2; Battery Powered: TRUE; Control Interface: SPI; DAC SNR: 94; Digital Audio Interfaces: R, L, I2S; Sampling Rate (Max) (kHz): 48; DatasheetVersion: SBAS079A; PackageVersion: revE, Dec-2001; PackageReference: DB24; PackageDescription: 24-Pin Plastic Small Outline Package, 8.2 x 5.3 mm Body, 0.65 mm Pitch; Supplier 1: Digi-Key; Supplier Part Number 1: PCM3002EG-ND; Supplier 2: Newark; Supplier Part Number 2: 43J9716; Supplier 3: Mouser; Supplier Part Number 3: 595-PCM3002EG; # DACs: 2; Mounting Technology: Surface Mount; Code_JEDEC: MO-150; ComponentLink1Description: Datasheet; ComponentLink1URL: http://www.ti.com/general/docs/lit/getliterature.tsp?genericPartNumber=PCM3002&fileType=pdf
footprint DB24_N (SOP, 24-Leads, Body 8.2x5.3mm, Pitch 0.65mm, IPC Medium Density)
footprint DB24_L (SOP, 24-Leads, Body 8.2x5.3mm, Pitch 0.65mm, IPC High Density)
footprint DB24_M (SOP, 24-Leads, Body 8.2x5.3mm, Pitch 0.65mm, IPC Low Density)
pins: 1 VCC1 (power) "ADC analog power supply", 2 VCC1 (power) "ADC analog power supply", 3 VINR (in) "ADC analog input, Rch", 4 VREF1 (in) "ADC reference 1", 5 VREF2 (in) "ADC reference 2", 6 VINL (in) "ADC analog input, Lch", 7 ~{RST} (in) "Reset, active LOW", 8 ML (in) "Strobe pulse for mode control", 9 SYSCLK (in) "System clock input", 10 LRCIN (in) "Sample rate clock input (f s )", 11 BCKIN (in) "Bit clock input", 12 DOUT (out) "Data output", 13 DGND (power) "Digital ground", 14 VDD (power) "Digital power supply", 15 DIN (in) "Data input", 16 ~{ZFLG} (hiz) "Zero flag output, active LOW", 17 MD (in) "Serial data for mode control", 18 MC (in) "Bit clock for mode control", 19 VOUTL (out) "DAC analog output, Lch", 20 VOUTR (out) "DAC analog output, Rch", 21 VCOM "ADC/DAC common", 22 AGND2 (power) "DAC analog ground", 23 AGND1 (power) "ADC analog ground", 24 VCC2 (power) "DAC analog power supply"